# Altium footprint library KLDX-0202-B.PcbLib: 1 footprints
Each footprint in its own frame and in the unit in brackets; x right, y up, seen from the top. Pads: shape width x height; smd on the part's side, far side on the other; paste and mask are expansions set on the pad; w line width, h text height; cw(c..) or ccw(c..) is an arc to the next point about the centre after c.
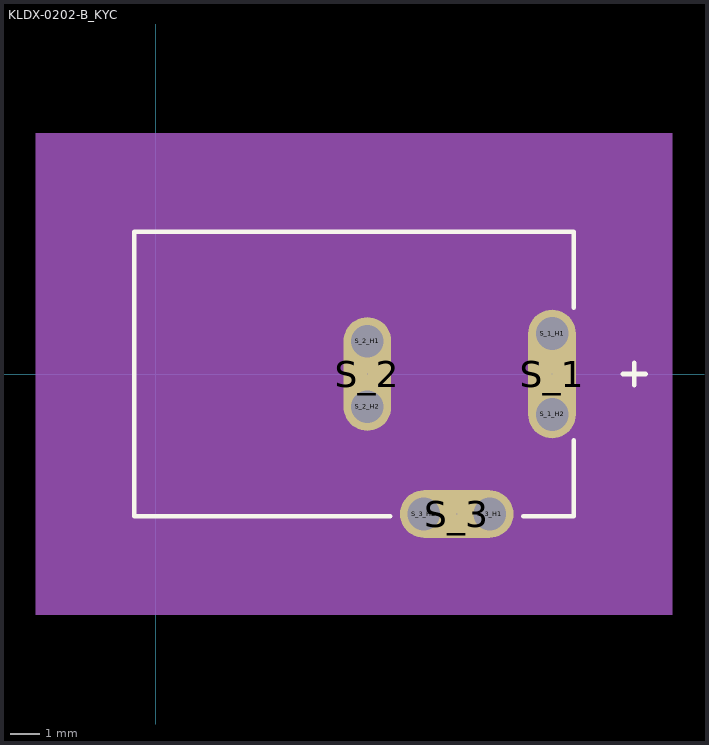
[diagram p0: the footprint, top view; thin cyan lines are the x and y axes]

## KLDX-0202-B_KYC [mil]
pads (9):
  oval 63x170 hole 1 mask+0: S_1(523.49,0)
  round 43 hole 43 unplated: S_1_H1(523.49,53.5) S_1_H2(523.49,-53.5) S_2_H1(279.39,43.5) S_2_H2(279.39,-43.5) S_3_H1(441,-185.04) S_3_H2(354,-185.04)
  oval 63x150 hole 1 mask+0: S_2(279.39,0)
  oval 150x63 hole 1 mask+0: S_3(397.5,-185.04)
Top Overlay:
  lines w6: 309.5,-188 -28.76,-188 -28.76,188 552.24,188 552.24,87.59 ; 485.51,-188 552.24,-188 552.24,-87.59 ; 617.24,0 647.24,0 ; 632.24,-15 632.24,15
Mechanical 5:
  region: 682.24,-318 -158.76,-318 -158.76,318 682.24,318
Mechanical 13:
  lines w1: 617.24,0 647.24,0 ; 632.24,-15 632.24,15 ; -23.76,-183 547.24,-183 547.24,183 -23.76,183 -23.76,-183
Mechanical 15:
  region: 557.24,-193 -33.76,-193 -33.76,193 557.24,193
  lines w6: -33.76,-193 -33.76,193 557.24,193 557.24,-193 -33.76,-193
Multi-Layer:
  lines w43: 279.39,-43.5 279.39,43.5 ; 354,-185.04 441,-185.04 ; 523.49,-53.5 523.49,53.5
3D body: height 10, standoff 0, extent 0,0 10,10